# EAGLE library part PINHD-2X3 (library miller)
2x3 header 0.1" spacing
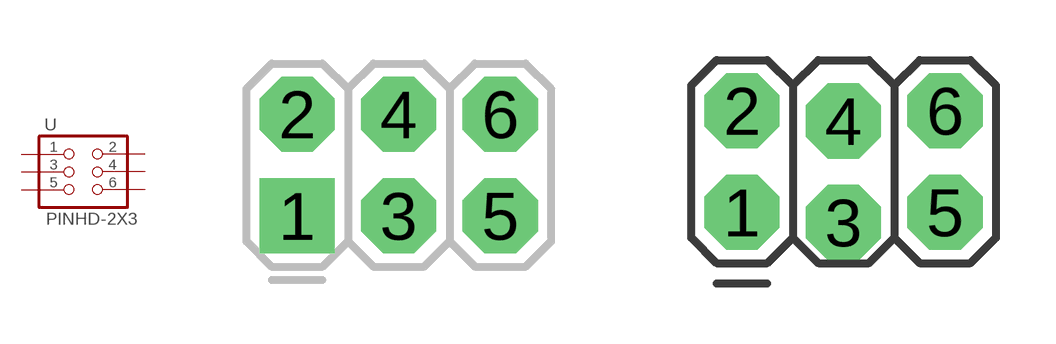
[diagram p23: symbol with the pads of 2X3-NS; footprints 2X3-NS, 2X3_LOCK]

Designator prefix -

## PINHD-2X3NO_SILK  [2X3-NS]
1  1  pas
2  2  pas
3  3  pas
4  4  pas
5  5  pas
6  6  pas

## PINHD-2X3LOCK_SILK  [2X3_LOCK]
Pads as for 2X3-NS

## PINHD-2X3LOCK_FEMALE_SILK  [2X3_LOCK_FEMALE]
Pads as for 2X3-NS

## Footprint 2X3-NS (pad centres in mm)
drill 1.016 pad 1.88 square: 1 -2.54,-1.27
drill 1.016 pad 1.88 octagon: 2 -2.54,1.27; 3 0,-1.27; 4 0,1.27; 5 2.54,-1.27; 6 2.54,1.27

## Footprint 2X3_LOCK (pad centres in mm)
drill 1.016 pad 1.88 octagon: 1 0,0; 2 0,2.54; 3 2.54,-0.254; 4 2.54,2.286; 5 5.08,0; 6 5.08,2.54

## Footprint 2X3_LOCK_FEMALE (pad centres in mm)
2x3 0.1" pitch header female Outline set to show female header block
drill 1.016 pad 1.88 octagon: 1 -2.54,-1.27; 2 -2.54,1.27; 3 0,-1.524; 4 0,1.016; 5 2.54,-1.27; 6 2.54,1.27